# Altium schematic symbol library BZT52B3V3S R9.SchLib: 1 symbol
Pins are listed as number, name and electrical type; pins without a type are passive.

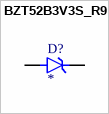
[diagram p0: symbol BZT52B3V3S_R9]

## BZT52B3V3S_R9
designator D?
MF: {'manufacturer': u'Taiwan Semiconductor'}; MP: BZT52B3V3S_R9; Package: None; Price: None; Value: *; Availability: Unavailable
footprint DIO_BZT52B3V3S_R9
pins: A, C K